# Altium schematic symbol library LT1961.SchLib: 1 symbol
Pins are listed as number, name and electrical type; pins without a type are passive.

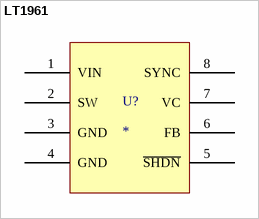
[diagram p0: symbol LT1961]

## LT1961
designator U?
LT1961; Vendor: Linear Technology; Manufacturer: Linear Technology; Part No.: LT1961; Price Est.: $2.01
footprint MS8E (Linear Technology 8-Lead PLASTIC MSOP Exposed Ground (LT1961))
pins: 1 VIN, 2 SW, 3 GND, 4 GND, 5 ~{SHDN}, 6 FB, 7 VC, 8 SYNC